# Altium schematic symbol library MCP73833-BZI_UN.SchLib: 1 symbol
Pins are listed as number, name and electrical type; pins without a type are passive.

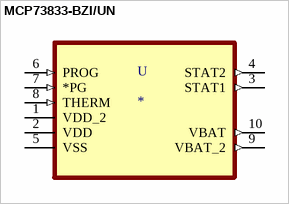
[diagram p0: symbol MCP73833-BZI/UN]

## MCP73833-BZI/UN
designator U
Charger IC Lithium Ion/Polymer 10-MSOP; MP: MCP73833-BZI/UN; MF: Microchip; Availability: Unavailable; Package: MSOP-10 Microchip; SnapEDA_Link: https://www.snapeda.com/parts/MCP73833-BZI/UN/Microchip/view-part/142626/?ref=snap; Value: *; Price: None
footprint SOP50P490X110-10N
pins: 1 VDD_2 (power), 2 VDD (power), 3 STAT1 (out), 4 STAT2 (out), 5 VSS, 6 PROG (in), 7 *PG (in), 8 THERM (in), 9 VBAT_2 (out), 10 VBAT (out)